# EAGLE library part 742G125 (library bodger)
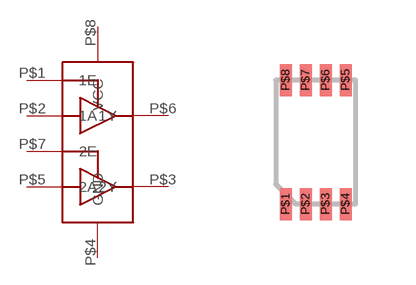
[diagram p50: symbol with the pads of VFSOP8-DCU; footprint VFSOP8-DCU]

Designator prefix -

## 742G125DCU  [VFSOP8-DCU]
P$1  1E  in
P$2  1A  in
P$3  2Y  out
P$4  GND  pwr
P$5  2A  in
P$6  1Y  out
P$7  2E  in
P$8  VCC  pwr

## Footprint VFSOP8-DCU (pad centres in mm)
smd 0.3 x 0.8: P$1 -0.75,-1.55; P$2 -0.25,-1.55; P$3 0.25,-1.55; P$4 0.75,-1.55; P$5 0.75,1.55; P$6 0.25,1.55; P$7 -0.25,1.55; P$8 -0.75,1.55